# Altium schematic symbol library TP4057.SchLib: 1 symbol
Pins are listed as number, name and electrical type; pins without a type are passive.

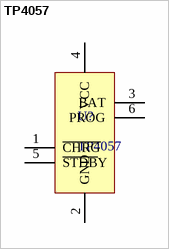
[diagram p0: symbol TP4057]

## TP4057
designator U?
footprint SOT23-6
pins: 1 ~{CHRG}, 2 GND, 3 BAT, 4 VCC, 5 ~{STDB}Y, 6 PROG